# Altium schematic symbol library Arduino.SchLib: 10 symbols
Pins are listed as number, name and electrical type; pins without a type are passive.

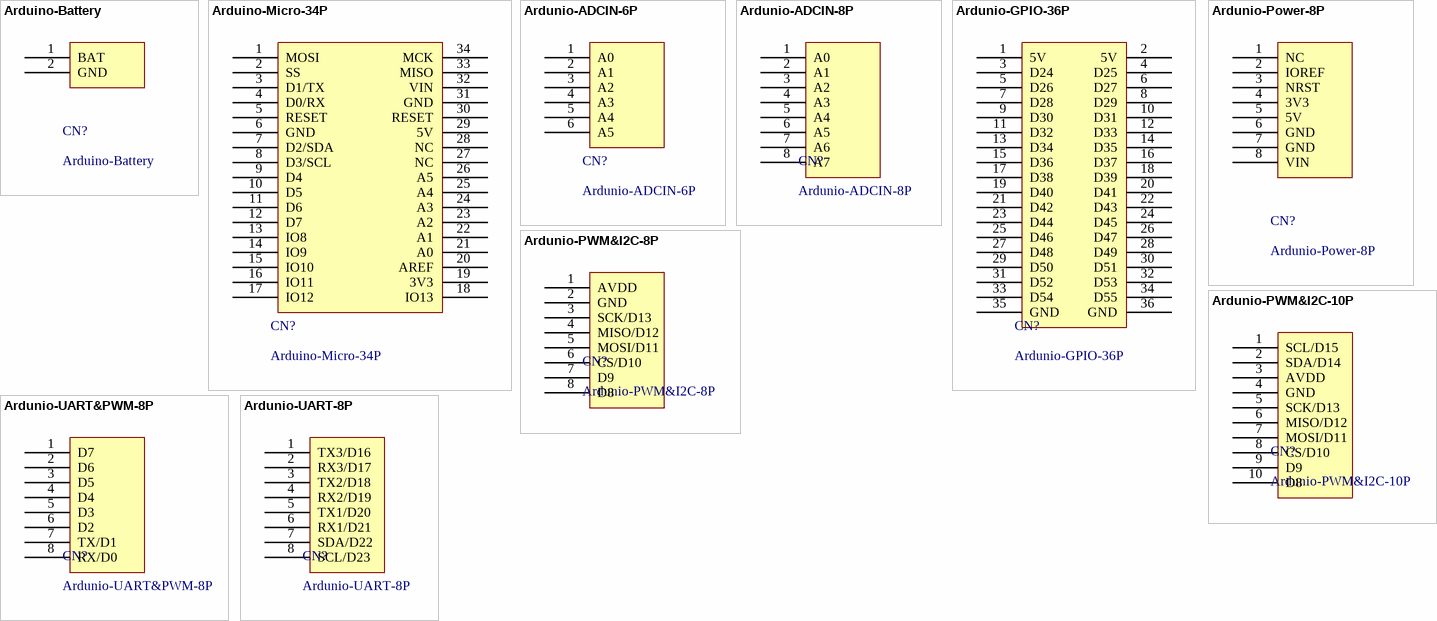
[diagram p0: symbols Arduino-Battery to Ardunio-UART-8P]

## Arduino-Battery
designator CN?
footprint HDR1X2/2.54mm
pins: 1 BAT, 2 GND

## Arduino-Micro-34P
designator CN?
pins: 1 MOSI, 2 SS, 3 D1/TX, 4 D0/RX, 5 RESET, 6 GND, 7 D2/SDA, 8 D3/SCL, 9 D4, 10 D5, 11 D6, 12 D7, 13 IO8, 14 IO9, 15 IO10, 16 IO11, 17 IO12, 18 IO13, 19 3V3, 20 AREF, 21 A0, 22 A1, 23 A2, 24 A3, 25 A4, 26 A5, 27 NC, 28 NC, 29 5V, 30 RESET, 31 GND, 32 VIN, 33 MISO, 34 MCK

## Ardunio-ADCIN-6P
designator CN?
footprint HDR1X6/2.54MM (Connector; Header; 6 Position)
pins: 1 A0, 2 A1, 3 A2, 4 A3, 5 A4, 6 A5

## Ardunio-ADCIN-8P
designator CN?
footprint HDR1X8/2.54MM (Connector; Header; 8 Position)
pins: 1 A0, 2 A1, 3 A2, 4 A3, 5 A4, 6 A5, 7 A6, 8 A7

## Ardunio-GPIO-36P
designator CN?
pins: 1 5V, 2 5V, 3 D24, 4 D25, 5 D26, 6 D27, 7 D28, 8 D29, 9 D30, 10 D31, 11 D32, 12 D33, 13 D34, 14 D35, 15 D36, 16 D37, 17 D38, 18 D39, 19 D40, 20 D41, 21 D42, 22 D43, 23 D44, 24 D45, 25 D46, 26 D47, 27 D48, 28 D49, 29 D50, 30 D51, 31 D52, 32 D53, 33 D54, 34 D55, 35 GND, 36 GND

## Ardunio-Power-8P
designator CN?
footprint HDR1X8/2.54MM (Connector; Header; 8 Position)
pins: 1 NC, 2 IOREF, 3 NRST, 4 3V3, 5 5V, 6 GND, 7 GND, 8 VIN

## Ardunio-PWM&I2C-8P
designator CN?
footprint HDR1X8/2.54MM (Connector; Header; 8 Position)
pins: 1 AVDD, 2 GND, 3 SCK/D13, 4 MISO/D12, 5 MOSI/D11, 6 CS/D10, 7 D9, 8 D8

## Ardunio-PWM&I2C-10P
designator CN?
footprint HDR1X10/2.54MM (Connector; Header; 10 Position)
pins: 1 SCL/D15, 2 SDA/D14, 3 AVDD, 4 GND, 5 SCK/D13, 6 MISO/D12, 7 MOSI/D11, 8 CS/D10, 9 D9, 10 D8

## Ardunio-UART&PWM-8P
designator CN?
footprint HDR1X8/2.54MM (Connector; Header; 8 Position)
pins: 1 D7, 2 D6, 3 D5, 4 D4, 5 D3, 6 D2, 7 TX/D1, 8 RX/D0

## Ardunio-UART-8P
designator CN?
footprint HDR1X8/2.54MM (Connector; Header; 8 Position)
pins: 1 TX3/D16, 2 RX3/D17, 3 TX2/D18, 4 RX2/D19, 5 TX1/D20, 6 RX1/D21, 7 SDA/D22, 8 SCL/D23